# EAGLE library part BQ24075 (library SparkFun-IC-Power)
Texas Instruments BQ24075 LiPo Battery Chargerand Power-Path Management IC The bq2407x series of devices are integrated Li-Ion linear chargers and system power path management devices targeted at space-limited portable applications. The devices operate from either a USB port or an AC adapter and support charge currents up to 1.5 A. The input voltage range with input overvoltage protection supports unregulated adapters. The USB input current limit accuracy and start up sequence allow the bq2407x to meet USB-IF inrush current specifications. Additionally, the input dynamic power management (VIN-DPM) prevents the charger from crashing incorrectly configured USB sources. Datasheet <http://www.ti.com/product/BQ24075/datasheet> SparkFun Products SparkFun Battery Babysitter <https://www.sparkfun.com/products/13777> (PRT-13777)
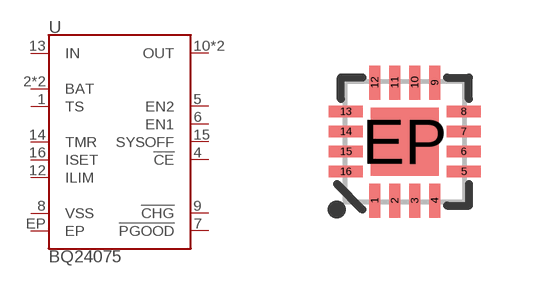
[diagram p11: symbol with the pads of PVQFN-N16; footprint PVQFN-N16]

Designator prefix U

## BQ24075 (PROD_ID: IC-13219)  [PVQFN-N16]
1  TS
2  BAT
3  BAT
4  !CE!
5  EN2
6  EN1
7  !PGOOD!
8  VSS
9  !CHG!
10  OUT
11  OUT
12  ILIM
13  IN
14  TMR
15  SYSOFF
16  ISET
EP  EP

## Footprint PVQFN-N16 (pad centres in mm)
16-Pin VSON (VQFN) 3.0 x 3.0 mm IC Dimensions: 3.0 x3.0 x 1.0 mm Pitch: 0.5mm Pins: 16 + Bottom Pad Used by the BQ24075 LiPo Charger Example Datasheet <http://www.ti.com/product/BQ24075/datasheet>
smd 0.28 x 0.85: 1 -0.75,-1.475; 2 -0.25,-1.475; 3 0.25,-1.475; 4 0.75,-1.475; 9 0.75,1.475; 10 0.25,1.475; 11 -0.25,1.475; 12 -0.75,1.475
smd 0.85 x 0.28: 5 1.475,-0.75; 6 1.475,-0.25; 7 1.475,0.25; 8 1.475,0.75; 13 -1.475,0.75; 14 -1.475,0.25; 15 -1.475,-0.25; 16 -1.475,-0.75
smd 1.7 x 1.7: EP 0,0